# EAGLE library part ULTIMATE_GPS (library open_hw_sockets)
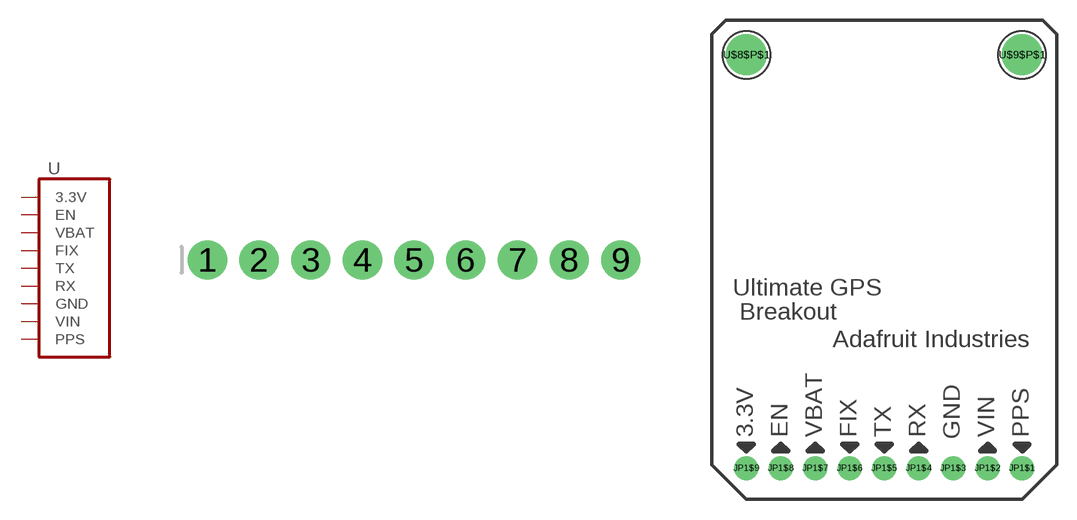
[diagram p3: symbol with the pads of ULTIMATE_GPS_V3_HACK_BASIC; footprints ULTIMATE_GPS_V3_HACK_BASIC, ULTIMATE_GPS_V3_HACK]

Designator prefix -

## ULTIMATE_GPSHACK_BASIC  [ULTIMATE_GPS_V3_HACK_BASIC]
1  3.3V  sup
2  EN  in
3  VBAT  pwr
4  FIX  out
5  TX  out
6  RX  in
7  GND  pwr
8  VIN  pwr
9  PPS  out

## ULTIMATE_GPSHACK  [ULTIMATE_GPS_V3_HACK]
JP1$1  PPS  out
JP1$2  VIN  pwr
JP1$3  GND  pwr
JP1$4  RX  in
JP1$5  TX  out
JP1$6  FIX  out
JP1$7  VBAT  pwr
JP1$8  EN  in
JP1$9  3.3V  sup
U$8$P$1  GND  pwr
U$9$P$1  GND  pwr

## ULTIMATE_GPSHACK_TOP  [ULTIMATE_GPS_V3__HACK_TOP]
Pads as for ULTIMATE_GPS_V3_HACK

## ULTIMATE_GPSTOP  [ULTIMATE_GPS_V3_TOP]
Pads as for ULTIMATE_GPS_V3_HACK

## ULTIMATE_GPS  [ULTIMATE_GPS_V3]
Pads as for ULTIMATE_GPS_V3_HACK

## Footprint ULTIMATE_GPS_V3_HACK_BASIC (pad centres in mm)
drill 1 pad 1.93: 1 -6.35,0; 2 -3.81,0; 3 -1.27,0; 4 1.27,0; 5 3.81,0; 6 6.35,0; 7 8.89,0; 8 11.43,0; 9 13.97,0

## Footprint ULTIMATE_GPS_V3_HACK (pad centres in mm)
drill 1 pad 1.778: JP1$1 22.86,2.286; JP1$2 20.32,2.286; JP1$3 17.78,2.286; JP1$4 15.24,2.286; JP1$5 12.7,2.286; JP1$6 10.16,2.286; JP1$7 7.62,2.286; JP1$8 5.08,2.286; JP1$9 2.54,2.286
drill 2 pad 3: U$8$P$1 2.54,32.782; U$9$P$1 22.86,32.782

## Footprint ULTIMATE_GPS_V3__HACK_TOP (pad centres in mm)
drill 1 pad 1.778: JP1$1 22.86,2.286; JP1$2 20.32,2.286; JP1$3 17.78,2.286; JP1$4 15.24,2.286; JP1$5 12.7,2.286; JP1$6 10.16,2.286; JP1$7 7.62,2.286; JP1$8 5.08,2.286; JP1$9 2.54,2.286
drill 2 pad 3: U$8$P$1 2.54,32.782; U$9$P$1 22.86,32.782

## Footprint ULTIMATE_GPS_V3_TOP (pad centres in mm)
drill 1 pad 1.778: JP1$1 22.86,2.032; JP1$2 20.32,2.032; JP1$3 17.78,2.032; JP1$4 15.24,2.032; JP1$5 12.7,2.032; JP1$6 10.16,2.032; JP1$7 7.62,2.032; JP1$8 5.08,2.032; JP1$9 2.54,2.032
drill 2.2 pad 3: U$8$P$1 2.54,31.385; U$9$P$1 22.86,31.385

## Footprint ULTIMATE_GPS_V3 (pad centres in mm)
drill 1 pad 1.778: JP1$1 22.86,2.032; JP1$2 20.32,2.032; JP1$3 17.78,2.032; JP1$4 15.24,2.032; JP1$5 12.7,2.032; JP1$6 10.16,2.032; JP1$7 7.62,2.032; JP1$8 5.08,2.032; JP1$9 2.54,2.032
drill 2.2 pad 3: U$8$P$1 2.54,31.385; U$9$P$1 22.86,31.385